# Altium footprint library PTS636SM25FSMTRLFS.PcbLib: 1 footprints
Each footprint in its own frame and in the unit in brackets; x right, y up, seen from the top. Pads: shape width x height; smd on the part's side, far side on the other; paste and mask are expansions set on the pad; w line width, h text height; cw(c..) or ccw(c..) is an arc to the next point about the centre after c.
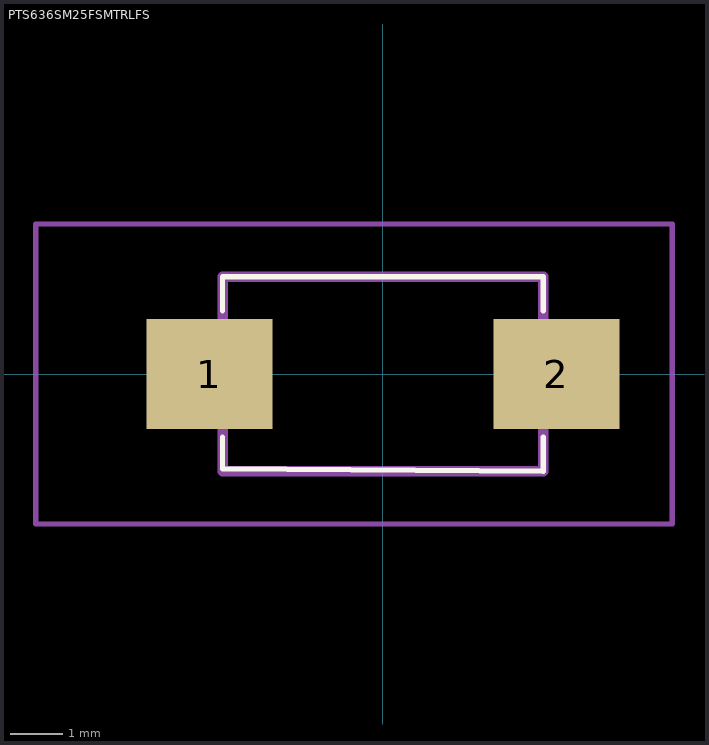
[diagram p0: the footprint, top view; thin cyan lines are the x and y axes]

## PTS636SM25FSMTRLFS [mm]
pads (2):
  rect 2.4x2.1 smd: 1(-3.3,0) 2(3.3,0)
Top Overlay:
  lines w0.1: -3.05,-1.2 -3.05,-1.8 3.05,-1.85 3.05,-1.2 ; -3.05,1.2 -3.05,1.85 3.05,1.85 3.05,1.2
Mechanical 15:
  lines w0.2: -3.05,-1.85 -3.05,1.85 3.05,1.85 3.05,-1.85 -3.05,-1.85
Mechanical 20:
  lines w0.1: -6.6,-2.85 -6.6,2.85 5.5,2.85 5.5,-2.85 -6.6,-2.85